# Altium footprint library DPAK8P127_1385X440L210X60T755X850N.PcbLib: 1 footprints
Each footprint in its own frame and in the unit in brackets; x right, y up, seen from the top. Pads: shape width x height; smd on the part's side, far side on the other; paste and mask are expansions set on the pad; w line width, h text height; cw(c..) or ccw(c..) is an arc to the next point about the centre after c.
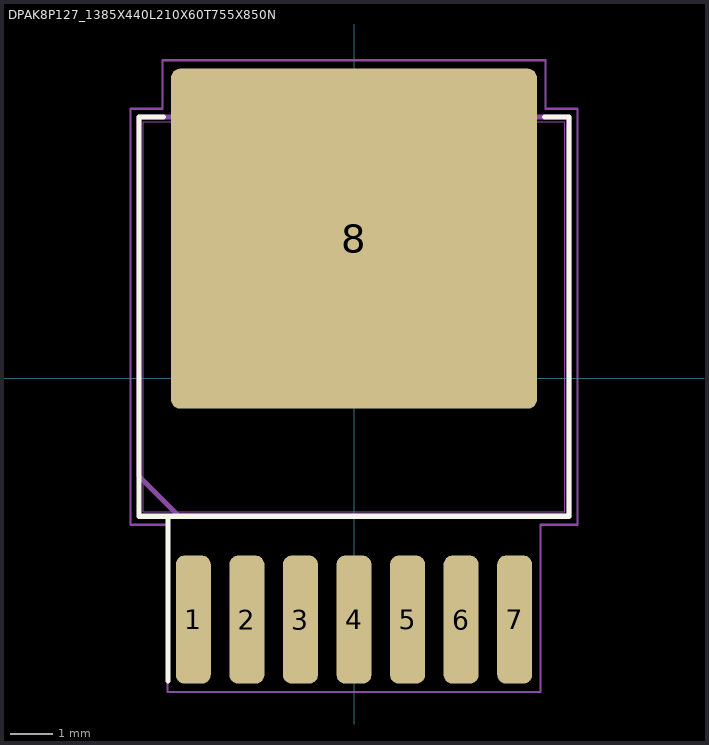
[diagram p0: the footprint, top view; thin cyan lines are the x and y axes]

## DPAK8P127_1385X440L210X60T755X850N [mm] "DPAK, 1.27 mm pitch; 7 pin, 9.25 mm L X 10.00 mm W X 4.40 mm H body"
height 4.4
pads (8):
  rrect51% 0.83x3.04 smd: 1(-3.81,-5.72) 2(-2.54,-5.72) 3(-1.27,-5.72) 4(0,-5.72) 5(1.27,-5.72) 6(2.54,-5.72) 7(3.81,-5.72)
  rrect5% 8.67x8.06 smd paste-8.67: 8(0,3.31)
Top Overlay:
  lines w0.12: -4.515,6.19 -5.1,6.19 -5.1,-3.27 5.1,-3.27 5.1,6.19 4.515,6.19 ; -4.41,-7.18 -4.41,-3.27
Top Paste:
  region: 4.08,-0.405 2.84,-0.405 2.84,0.995 4.08,0.995
  region: 4.08,1.605 2.84,1.605 2.84,3.005 4.08,3.005
  region: 4.08,3.615 2.84,3.615 2.84,5.015 4.08,5.015
  region: 4.08,5.625 2.84,5.625 2.84,7.025 4.08,7.025
  region: 2.35,-0.405 1.11,-0.405 1.11,0.995 2.35,0.995
  region: 2.35,1.605 1.11,1.605 1.11,3.005 2.35,3.005
  region: 2.35,3.615 1.11,3.615 1.11,5.015 2.35,5.015
  region: 2.35,5.625 1.11,5.625 1.11,7.025 2.35,7.025
  region: 0.62,-0.405 -0.62,-0.405 -0.62,0.995 0.62,0.995
  region: 0.62,1.605 -0.62,1.605 -0.62,3.005 0.62,3.005
  region: 0.62,3.615 -0.62,3.615 -0.62,5.015 0.62,5.015
  region: 0.62,5.625 -0.62,5.625 -0.62,7.025 0.62,7.025
  region: -1.11,-0.405 -2.35,-0.405 -2.35,0.995 -1.11,0.995
  region: -1.11,1.605 -2.35,1.605 -2.35,3.005 -1.11,3.005
  region: -1.11,3.615 -2.35,3.615 -2.35,5.015 -1.11,5.015
  region: -1.11,5.625 -2.35,5.625 -2.35,7.025 -1.11,7.025
  region: -2.84,-0.405 -4.08,-0.405 -4.08,0.995 -2.84,0.995
  region: -2.84,1.605 -4.08,1.605 -4.08,3.005 -2.84,3.005
  region: -2.84,3.615 -4.08,3.615 -4.08,5.015 -2.84,5.015
  region: -2.84,5.625 -4.08,5.625 -4.08,7.025 -2.84,7.025
Mechanical 3:
  lines w0.12: -5.1,-2.317 -5.1,6.19 5.1,6.19 5.1,-3.27 -4.147,-3.27 -5.1,-2.317
Mechanical 5:
  lines w0.025: -5,-3.165 -5,6.085 5,6.085 5,-3.165 -5,-3.165 ; -4.25,-0.625 4.25,-0.625 4.25,6.925 -4.25,6.925 -4.25,-0.625 ; -4.11,-6.925 -3.51,-6.925 -3.51,-4.825 -4.11,-4.825 -4.11,-6.925 ; -2.84,-6.925 -2.24,-6.925 -2.24,-4.825 -2.84,-4.825 -2.84,-6.925 ; -1.57,-6.925 -0.97,-6.925 -0.97,-4.825 -1.57,-4.825 -1.57,-6.925 ; -0.3,-6.925 0.3,-6.925 0.3,-4.825 -0.3,-4.825 -0.3,-6.925 ; 0.97,-6.925 1.57,-6.925 1.57,-4.825 0.97,-4.825 0.97,-6.925 ; 2.24,-6.925 2.84,-6.925 2.84,-4.825 2.24,-4.825 2.24,-6.925 ; 3.51,-6.925 4.11,-6.925 4.11,-4.825 3.51,-4.825 3.51,-6.925
Mechanical 7:
  circle w0.05: c0,0 r0.25
  lines w0.05: -0.35,0 0.35,0 ; 0,-0.35 0,0.35 ; -5.3,-3.47 -5.3,6.39 -4.535,6.39 -4.535,7.54 4.535,7.54 4.535,6.39 5.3,6.39 5.3,-3.47 4.425,-3.47 4.425,-7.44 -4.425,-7.44 -4.425,-3.47 -5.3,-3.47
Mechanical 9:
  text "'.Designator'" at -5.359,-2.515 h1
3D body "DPAK8P127_1385X440L210X60T755X850.STEP": height 4.4, standoff 0, extent -5,-6.925 5,6.925
3D body: height 0.03, standoff 0, extent -5.309,-7.442 5.309,7.544
3D body: height 1.04, standoff 0, extent -5.3,-7.44 5.3,7.54